# EAGLE library part RP2040 (library RP2040)
Check availability <https://pricing.snapeda.com/parts/RP2040/Raspberry%20Pi/view-part?ref=eda>
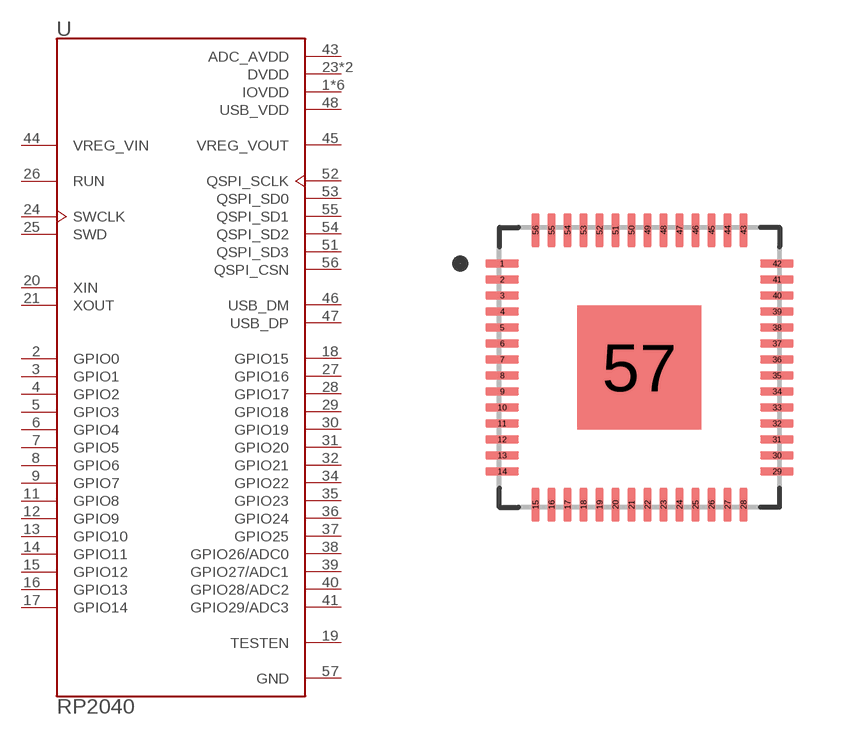
[diagram p0: symbol with the pads of QFN40P700X700X90-57N; footprint QFN40P700X700X90-57N]

Designator prefix U

## RP2040  [QFN40P700X700X90-57N]
1  IOVDD  pwr
2  GPIO0
3  GPIO1
4  GPIO2
5  GPIO3
6  GPIO4
7  GPIO5
8  GPIO6
9  GPIO7
10  IOVDD  pwr
11  GPIO8
12  GPIO9
13  GPIO10
14  GPIO11
15  GPIO12
16  GPIO13
17  GPIO14
18  GPIO15
19  TESTEN  pas
20  XIN  in
21  XOUT  out
22  IOVDD  pwr
23  DVDD  pwr
24  SWCLK  in
25  SWD
26  RUN  in
27  GPIO16
28  GPIO17
29  GPIO18
30  GPIO19
31  GPIO20
32  GPIO21
33  IOVDD  pwr
34  GPIO22
35  GPIO23
36  GPIO24
37  GPIO25
38  GPIO26/ADC0
39  GPIO27/ADC1
40  GPIO28/ADC2
41  GPIO29/ADC3
42  IOVDD  pwr
43  ADC_AVDD  pwr
44  VREG_VIN  in
45  VREG_VOUT  out
46  USB_DM
47  USB_DP
48  USB_VDD  pwr
49  IOVDD  pwr
50  DVDD  pwr
51  QSPI_SD3
52  QSPI_SCLK
53  QSPI_SD0
54  QSPI_SD2
55  QSPI_SD1
56  QSPI_CSN
57  GND  pwr

## Footprint QFN40P700X700X90-57N (pad centres in mm)
smd 0.84 x 0.2: 1 -3.435,2.6; 2 -3.435,2.2; 3 -3.435,1.8; 4 -3.435,1.4; 5 -3.435,1; 6 -3.435,0.6; 7 -3.435,0.2; 8 -3.435,-0.2; 9 -3.435,-0.6; 10 -3.435,-1; 11 -3.435,-1.4; 12 -3.435,-1.8; 13 -3.435,-2.2; 14 -3.435,-2.6; 29 3.435,-2.6; 30 3.435,-2.2; 31 3.435,-1.8; 32 3.435,-1.4; 33 3.435,-1; 34 3.435,-0.6; 35 3.435,-0.2; 36 3.435,0.2; 37 3.435,0.6; 38 3.435,1; 39 3.435,1.4; 40 3.435,1.8; 41 3.435,2.2; 42 3.435,2.6
smd 0.2 x 0.84: 15 -2.6,-3.435; 16 -2.2,-3.435; 17 -1.8,-3.435; 18 -1.4,-3.435; 19 -1,-3.435; 20 -0.6,-3.435; 21 -0.2,-3.435; 22 0.2,-3.435; 23 0.6,-3.435; 24 1,-3.435; 25 1.4,-3.435; 26 1.8,-3.435; 27 2.2,-3.435; 28 2.6,-3.435; 43 2.6,3.435; 44 2.2,3.435; 45 1.8,3.435; 46 1.4,3.435; 47 1,3.435; 48 0.6,3.435; 49 0.2,3.435; 50 -0.2,3.435; 51 -0.6,3.435; 52 -1,3.435; 53 -1.4,3.435; 54 -1.8,3.435; 55 -2.2,3.435; 56 -2.6,3.435
smd 3.1 x 3.1: 57 0,0